# Altium schematic symbol library IC_TouchSensors.SchLib: 3 symbols
Pins are listed as number, name and electrical type; pins without a type are passive.

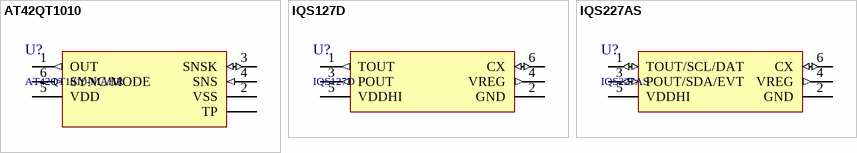
[diagram p0: symbols AT42QT1010 to IQS227AS]

## AT42QT1010
designator U?, comment AT42QT1010-MAHR
Single Channel Capacitive Touch Controller; HelpURL: http://ww1.microchip.com/downloads/en/DeviceDoc/40001946A.pdf; Value: AT42QT1010-MAHR; BOMString: AT42QT1010-MAHR; Supplier: https://www.digikey.com/product-detail/en/microchip-technology/AT42QT1010-MAHR/AT42QT1010-MAHRCT-ND/3440796; Name: AT42QT1010-MAHR
footprint SOT-23-6; pin to pad 0>none
footprint DFN-8-0.5-2x2_TP (PSON, 8-Leads, Body 2,00x2,00mm, Pitch 0,50mm, Thermal Pad 1,50x0,90mm, IPC Medium Density); pin to pad 1>5 2>4 3>1 4>8 5>7
pins: 0 TP, 1 OUT (out), 2 VSS, 3 SNSK (io), 4 SNS (in), 5 VDD (power), 6 SYNC/MODE (in)

## IQS127D
designator U?
Single Channel Capacitive Proximity/Touch Controller; HelpURL: http://www.azoteq.com/images/stories/pdf/iqs127_datasheet.pdf; Name: IQS127D; BOMString: IQS127D
footprint SOT-23-6
pins: 1 TOUT (out), 2 GND, 3 POUT (out), 4 VREG (out), 5 VDDHI (power), 6 CX (io)

## IQS227AS
designator U?
Single Channel Capacitive Proximity/Touch Controller; HelpURL: http://www.azoteq.com/images/stories/pdf/iqs227as_datasheet.pdf
footprint SOT-23-6
pins: 1 TOUT/SCL/DAT (io), 2 GND, 3 POUT/SDA/EVT (io), 4 VREG (out), 5 VDDHI (power), 6 CX (io)